# EAGLE library part 691317410006 (library Wurth_Elektronik_Electromechanic_Terminal_Blocks_Connectors_rev15c)
WR - TBL Serie 3174 - 7.62mm Reversed Gender Horizontal PCB Header with Flanges, 6 pins=>Code : Con_TBL_Pluggable_7.62_PCB_H_691317410006 <http://katalog.we-online.de/media/images/eican/Con_TBL_Pluggable_7.62_PCB_H_6913174100xx_pf2.jpg> Details see: http://katalog.we-online.de/en/em/691_317_410_0xx Created 2014-06-25, Karrer Zheng 2014 (C) Würth Elektronik
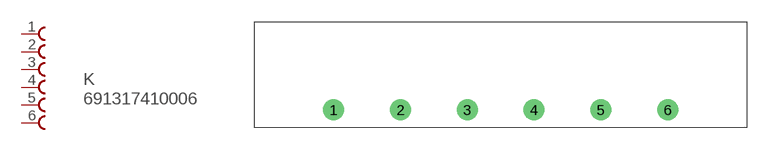
[diagram p202: symbol with the pads of 691317410006; footprint 691317410006]

Designator prefix K

## 691317410006  [691317410006]
1  1  pas
2  2  pas
3  3  pas
4  4  pas
5  5  pas
6  6  pas

## Footprint 691317410006 (pad centres in mm)
WR - TBL Serie 3174 - 7.62mm Reversed Gender Horizontal PCB Header with Flanges, 6 pins
drill 1.6: 1 -22.86,0; 2 -15.24,0; 3 -7.62,0; 4 0,0; 5 7.62,0; 6 15.24,0